# EAGLE library part 90814-0208 (library Molex_By_element14_Batch_1)
CONN HEADER 8POS 1.27MM SMD TIN
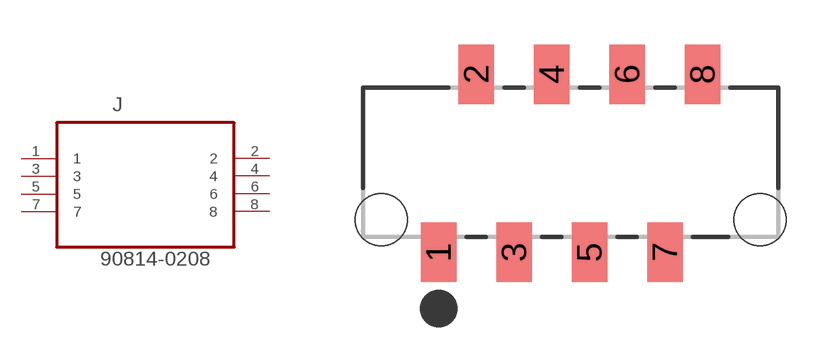
[diagram p2: symbol with the pads of MOLEX_90814-0208; footprint MOLEX_90814-0208]

Designator prefix J

## 90814-0208 (MPN: 90814-0208; OC_FARNELL: 1757025; OC_NEWARK: 34R6216; PACKAGE: CONN-8POS; SUPPLIER: Molex)  [MOLEX_90814-0208]
1  1  pas
2  2  pas
3  3  pas
4  4  pas
5  5  pas
6  6  pas
7  7  pas
8  8  pas

## Footprint MOLEX_90814-0208 (pad centres in mm)
smd 1.194 x 2.007: 1 -4.445,-3.175; 2 -3.175,2.819; 3 -1.905,-3.175; 4 -0.635,2.819; 5 0.635,-3.175; 6 1.905,2.819; 7 3.175,-3.175; 8 4.445,2.819
hole 1.753 at -6.375,-2.083
hole 1.753 at 6.375,-2.083